# Altium footprint library SOT-23-5.PcbLib: 1 footprints
Each footprint in its own frame and in the unit in brackets; x right, y up, seen from the top. Pads: shape width x height; smd on the part's side, far side on the other; paste and mask are expansions set on the pad; w line width, h text height; cw(c..) or ccw(c..) is an arc to the next point about the centre after c.
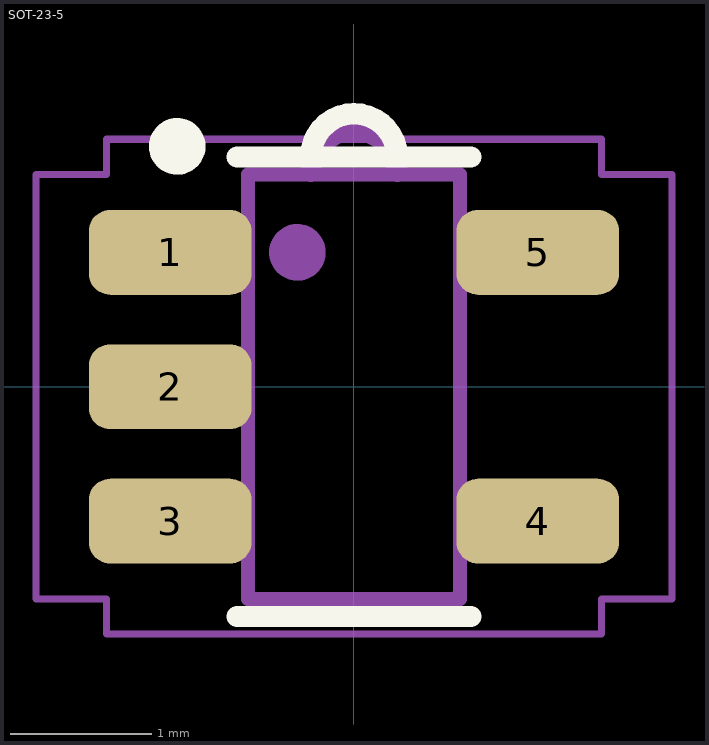
[diagram p0: the footprint, top view; thin cyan lines are the x and y axes]

## SOT-23-5 [mm] "SOT-23-5"
pads (5):
  rrect50% 1.15x0.6 smd: 1(-1.3,0.95) 2(-1.3,0) 3(-1.3,-0.95) 4(1.3,-0.95) 5(1.3,0.95)
Top Overlay:
  circle w0.2: c-1.25,1.7 r0.1
  lines w0.15: -0.825,-1.625 0.825,-1.625 ; -0.825,1.625 0.825,1.625
  lines w0.152: -0.305,1.636 cw(c0,1.625) 0.305,1.638
Assembly:
  circle w0.2: c-0.4,0.95 r0.1
  lines w0.05: -0.75,-1.206 -1.5,-1.206 -1.5,-0.706 -0.75,-0.706 ; -0.75,-0.241 -1.5,-0.241 -1.5,0.259 -0.75,0.259 ; -0.75,0.699 -1.5,0.699 -1.5,1.199 -0.75,1.199 ; 0.75,-1.199 1.5,-1.199 1.5,-0.699 0.75,-0.699 ; 0.75,0.706 1.5,0.706 1.5,1.206 0.75,1.206
  lines w0.1: 0.743,-1.47 0.747,-1.47 ; -0.75,-1.5 0.75,-1.5 0.75,1.5 -0.75,1.5 -0.75,-1.5
  lines w0.152: -0.305,1.523 cw(c0,1.512) 0.305,1.525
Courtyard:
  lines w0.05: -2.25,-1.5 -2.25,1.5 -1.75,1.5 -1.75,1.75 1.75,1.75 1.75,1.5 2.25,1.5 2.25,-1.5 1.75,-1.5 1.75,-1.75 -1.75,-1.75 -1.75,-1.5 -2.25,-1.5
3D body "DBV5_TEX.step": height 1.45, standoff 0, extent -1.499,-1.524 1.499,1.524